# EAGLE library part DUBOX9 (library leonino)
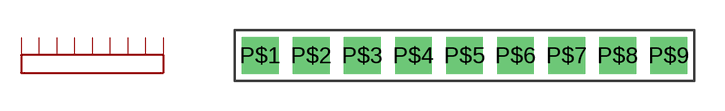
[diagram p2: symbol with the pads of DUBOX9; footprint DUBOX9]

Designator prefix -

## DUBOX9  [DUBOX9]
P$1  P$1
P$2  P$2
P$3  P$3
P$4  P$4
P$5  P$5
P$6  P$6
P$7  P$7
P$8  P$8
P$9  P$9

## Footprint DUBOX9 (pad centres in mm)
drill 1.219 pad 1.524 square: P$1 0,0; P$2 2.54,0; P$3 5.08,0; P$4 7.62,0; P$5 10.16,0; P$6 12.7,0; P$7 15.24,0; P$8 17.78,0; P$9 20.32,0